# Altium footprint library CONNECTOR.PCBLIB: 232 footprints (part 1 of 15)
Each footprint in its own frame and in the unit in brackets; x right, y up, seen from the top. Pads: shape width x height; smd on the part's side, far side on the other; paste and mask are expansions set on the pad; w line width, h text height; cw(c..) or ccw(c..) is an arc to the next point about the centre after c.
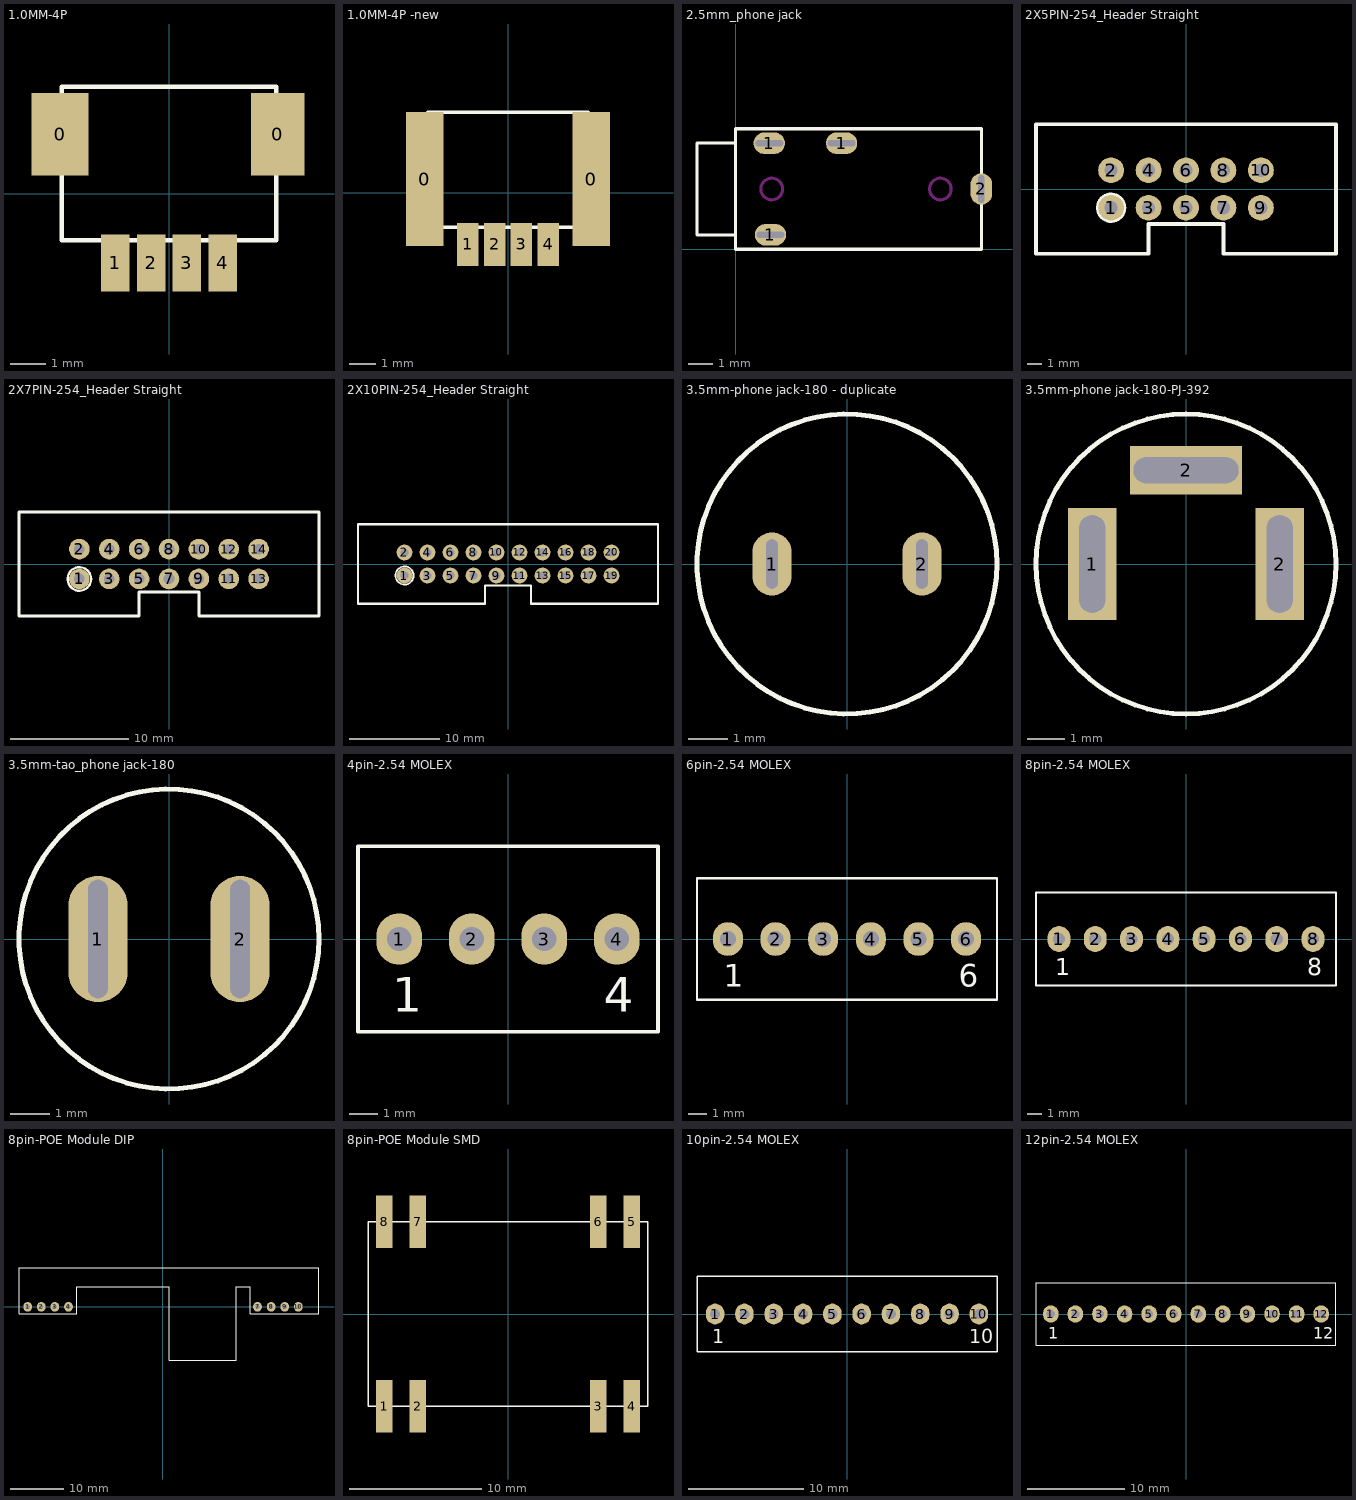
[diagram p0: the footprints below, top view; thin cyan lines are the x and y axes]

## 1.0MM-4P [mm] "1.0MM-4P"
pads (6):
  rect 1.6x2.3 smd: 0(-3.05,1.663)
  rect 1.5x2.3 smd: 0(3.05,1.663)
  rect 0.8x1.6 smd: 1(-1.5,-1.937) 2(-0.5,-1.937) 3(0.5,-1.937) 4(1.5,-1.937)
TopOverlay:
  lines w0.127: -3,-1.3 3,-1.3 3,3 -3,3 -3,-1.3

## 1.0MM-4P -new [mm] "1.0MM-4P -new"
pads (6):
  rect 1.4x5 smd: 0(-3.1,0.5) 0(3.1,0.5)
  rect 0.8x1.6 smd: 1(-1.5,-1.937) 2(-0.5,-1.937) 3(0.5,-1.937) 4(1.5,-1.937)
TopOverlay:
  lines w0.127: -3,-1.3 -3,3 3,3 3,-1.3 -3,-1.3

## 2.5mm_phone jack [mm] "2.5mm_phone jack"
pads (4):
  oval 1.3x0.9 hole 0.25 slot 1.15 at 0 deg: 1(1.4,4.4) 1(1.45,0.6) 1(4.4,4.4)
  oval 0.9x1.3 hole 0.25 slot 1.15 at 90 deg: 2(10.2,2.5)
TopOverlay:
  lines w0.127: 0,0.6 -1.6,0.6 -1.6,4.4 0,4.4 ; 0,0 0,5 10.2,5 10.2,0 0,0
KeepOutLayer:
  circle w0.127: c8.5,2.5 r0.45
  circle w0.127: c1.5,2.5 r0.45

## 2X5PIN-254_Header Straight [mm] "2X5PIN-254_Header Straight"
pads (10):
  round 1.75 hole 0.9: 1(-5.08,-1.27) 2(-5.08,1.27) 3(-2.54,-1.27) 4(-2.54,1.27) 5(0,-1.27) 6(0,1.27) 7(2.54,-1.27) 8(2.54,1.27) 9(5.08,-1.27) 10(5.08,1.27)
TopOverlay:
  circle w0.254: c-5.08,-1.27 r0.9
  lines w0.254: -2.54,-4.4 -10.175,-4.4 -10.175,4.4 10.175,4.4 10.175,-4.4 2.54,-4.4 ; -2.54,-4.37 -2.54,-2.37 2.54,-2.37 2.54,-4.39

## 2X7PIN-254_Header Straight [mm] "2X7PIN-254_Header Straight"
pads (14):
  round 1.75 hole 0.9: 1(-7.62,-1.27) 2(-7.62,1.27) 3(-5.08,-1.27) 4(-5.08,1.27) 5(-2.54,-1.27) 6(-2.54,1.27) 7(0,-1.27) 8(0,1.27) 9(2.54,-1.27) 10(2.54,1.27) 11(5.08,-1.27) 12(5.08,1.27) 13(7.62,-1.27) 14(7.62,1.27)
TopOverlay:
  circle w0.2: c-7.62,-1.27 r1
  lines w0.254: -2.54,-4.4 -12.75,-4.4 -12.75,4.4 12.75,4.4 12.75,-4.4 2.54,-4.4 ; -2.54,-4.37 -2.54,-2.37 2.54,-2.37 2.54,-4.39

## 2X10PIN-254_Header Straight [mm] "2X10PIN-254_Header Straight"
pads (20):
  round 1.75 hole 0.9: 1(-11.43,-1.27) 2(-11.43,1.27) 3(-8.89,-1.27) 4(-8.89,1.27) 5(-6.35,-1.27) 6(-6.35,1.27) 7(-3.81,-1.27) 8(-3.81,1.27) 9(-1.27,-1.27) 10(-1.27,1.27) 11(1.27,-1.27) 12(1.27,1.27) 13(3.81,-1.27) 14(3.81,1.27) 15(6.35,-1.27) 16(6.35,1.27) 17(8.89,-1.27) 18(8.89,1.27) 19(11.43,-1.27) 20(11.43,1.27)
TopOverlay:
  circle w0.2: c-11.43,-1.27 r1
  lines w0.254: -2.55,-4.4 -16.56,-4.4 -16.56,4.4 16.56,4.4 16.56,-4.4 2.53,-4.4 ; -2.55,-4.37 -2.55,-2.37 2.53,-2.37 2.53,-4.39

## 3.5mm-phone jack-180 - duplicate [mm] "3.5mm-phone jack-180"
pads (2):
  oval 1x1.6 hole 0.3 slot 1.25 at 90 deg: 1(-1.9,0) 2(1.9,0)
TopOverlay:
  circle w0.127: c0,0 r3.8

## 3.5mm-phone jack-180-PJ-392 [mm] "3.5mm-phone jack-180-PJ-392"
pads (3):
  rect 1.3x3 hole 0.7 slot 2.6 at 90 deg: 1(-2.5,0) 2(2.5,0)
  rect 3x1.3 hole 0.7 slot 2.8 at 0 deg: 2(0,2.5)
TopOverlay:
  circle w0.127: c0,0 r4

## 3.5mm-tao_phone jack-180 [mm] "3.5mm-tao_phone jack-180"
pads (2):
  oval 1.5x3.2 hole 0.5 slot 3 at 90 deg: 1(-1.8,0) 2(1.8,0)
TopOverlay:
  circle w0.127: c0,0 r3.8

## 4pin-2.54 MOLEX [mm] "4pin-2.54 MOLEX"
pads (4):
  oval 1.6x1.8 hole 0.85: 1(-3.81,0) 2(-1.27,0) 3(1.27,0) 4(3.81,0)
TopOverlay:
  lines w0.127: -5.25,-3.25 -5.25,3.25 5.25,3.25 5.25,-3.25 -5.25,-3.25
  text "4" at 3.35,-2.55 h1.2
  text "1" at -4.05,-2.55 h1.2

## 6pin-2.54 MOLEX [mm] "6pin-2.54 MOLEX"
pads (6):
  oval 1.6x1.8 hole 0.85: 1(-6.35,0) 2(-3.81,0) 3(-1.27,0) 4(1.27,0) 5(3.81,0) 6(6.35,0)
TopOverlay:
  lines w0.127: -8,-3.25 8,-3.25 8,3.25 -8,3.25 -8,-3.25
  text "1" at -6.575,-2.55 h1.2
  text "6" at 5.95,-2.55 h1.2

## 8pin-2.54 MOLEX [mm] "8pin-2.54 MOLEX"
pads (8):
  oval 1.6x1.8 hole 0.85: 1(-8.89,0) 2(-6.35,0) 3(-3.81,0) 4(-1.27,0) 5(1.27,0) 6(3.81,0) 7(6.35,0) 8(8.89,0)
TopOverlay:
  lines w0.127: -10.5,-3.25 -10.5,3.25 10.5,3.25 10.5,-3.25 -10.5,-3.25
  text "8" at 8.5,-2.55 h1.2
  text "1" at -9.15,-2.55 h1.2

## 8pin-POE Module DIP [mm] "8pin-POE Module DIP"
pads (8):
  oval 1.6x1.8 hole 0.85: 1(-25.26,0) 2(-22.72,0) 3(-20.18,0) 4(-17.64,0) 7(17.64,0) 8(20.18,0) 9(22.72,0) 10(25.26,0)
TopOverlay:
  lines w0.127: 16.29,3.75 13.64,3.75 13.64,-10 1.14,-10 1.14,3.75 -16.1,3.75 -16.1,-1.3 -26.88,-1.3 -26.88,7.3 29.12,7.3 29.12,-1.375 ; 16.3,3.76 16.3,-1.3 29.12,-1.3

## 8pin-POE Module SMD [mm] "8pin-POE Module SMD"
pads (8):
  rect 1.25x4 smd: 1(-9.375,-7) 2(-6.835,-7) 3(6.835,-7) 4(9.375,-7) 5(9.375,7) 6(6.835,7) 7(-6.835,7) 8(-9.375,7)
TopOverlay:
  lines w0.127: -10.6,-7 -10.6,7 10.6,7 10.6,-7 -10.6,-7

## 10pin-2.54 MOLEX [mm] "10pin-2.54 MOLEX"
pads (10):
  oval 1.6x1.8 hole 0.85: 1(-11.43,0) 2(-8.89,0) 3(-6.35,0) 4(-3.81,0) 5(-1.27,0) 6(1.27,0) 7(3.81,0) 8(6.35,0) 9(8.89,0) 10(11.43,0)
TopOverlay:
  lines w0.127: -13,-3.25 13,-3.25 13,3.25 -13,3.25 -13,-3.25
  text "1" at -11.675,-2.55 h1.2
  text "10" at 10.575,-2.55 h1.2

## 12pin-2.54 MOLEX [mm] "10pin-2.54 MOLEX"
pads (12):
  oval 1.6x1.8 hole 0.85: 1(-13.97,0) 2(-11.43,0) 3(-8.89,0) 4(-6.35,0) 5(-3.81,0) 6(-1.27,0) 7(1.27,0) 8(3.81,0) 9(6.35,0) 10(8.89,0) 11(11.43,0) 12(13.97,0)
TopOverlay:
  lines w0.127: -15.5,-3.25 15.5,-3.25 15.5,3.25 -15.5,3.25 -15.5,-3.25
  text "1" at -14.215,-2.55 h1.2
  text "12" at 13.125,-2.55 h1.2